# EAGLE library part PINHD-1X8 (library gee_s)
PIN HEADER
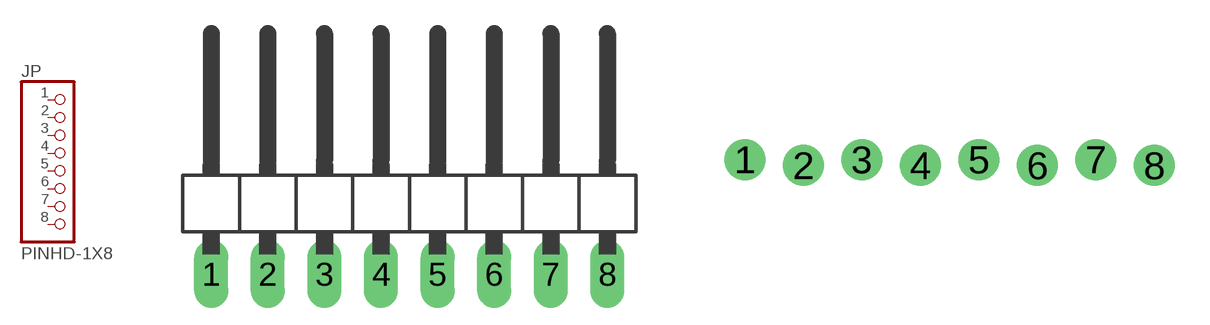
[diagram p5: symbol with the pads of 1X08/90; footprints 1X08/90, 1X08-LOCK]

Designator prefix JP

## PINHD-1X8/90  [1X08/90]
1  1  pas
2  2  pas
3  3  pas
4  4  pas
5  5  pas
6  6  pas
7  7  pas
8  8  pas

## PINHD-1X8LOCKINGLOCKING  [1X08-LOCK]
Pads as for 1X08/90

## PINHD-1X8  [1X08]
Pads as for 1X08/90

## Footprint 1X08/90 (pad centres in mm)
PIN HEADER
drill 1.016 long: 1 -8.89,-3.81; 2 -6.35,-3.81; 3 -3.81,-3.81; 4 -1.27,-3.81; 5 1.27,-3.81; 6 3.81,-3.81; 7 6.35,-3.81; 8 8.89,-3.81

## Footprint 1X08-LOCK (pad centres in mm)
drill 1.016 pad 1.778: 1 -8.89,0.127; 2 -6.35,-0.127; 3 -3.81,0.127; 4 -1.27,-0.127; 5 1.27,0.127; 6 3.81,-0.127; 7 6.35,0.127; 8 8.89,-0.127

## Footprint 1X08 (pad centres in mm)
PIN HEADER
drill 1.016 pad 1.778: 1 -8.89,0; 2 -6.35,0; 3 -3.81,0; 4 -1.27,0; 5 1.27,0; 6 3.81,0; 7 6.35,0; 8 8.89,0